# Altium footprint library TDK_B3202.PcbLib: 1 footprints
Each footprint in its own frame and in the unit in brackets; x right, y up, seen from the top. Pads: shape width x height; smd on the part's side, far side on the other; paste and mask are expansions set on the pad; w line width, h text height; cw(c..) or ccw(c..) is an arc to the next point about the centre after c.
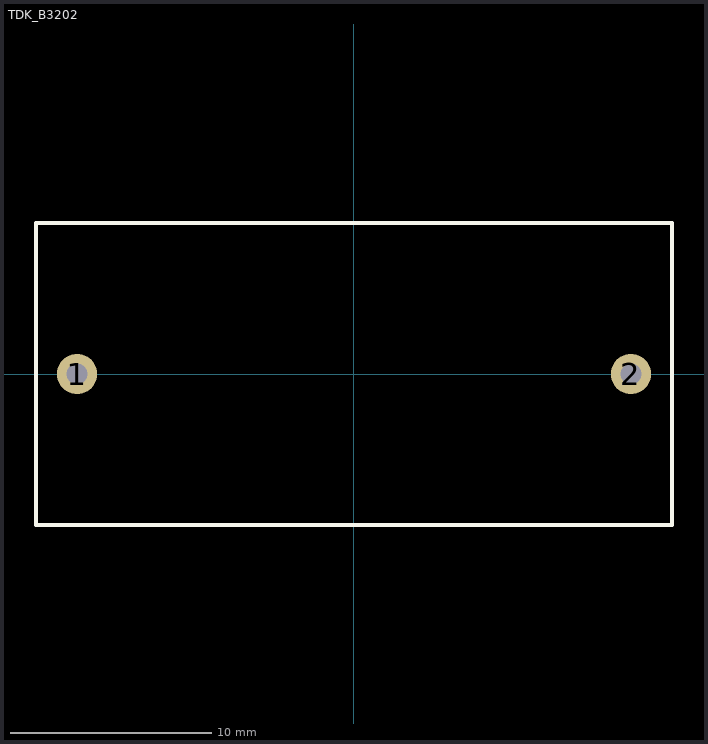
[diagram p0: the footprint, top view; thin cyan lines are the x and y axes]

## TDK_B3202 [mm] "TDK B3202 series class Y2 filter caps"
pads (2):
  round 2 hole 1.05: 1(-13.75,0) 2(13.75,0)
Top Overlay:
  lines w0.2: -15.8,-7.5 15.8,-7.5 15.8,7.5 -15.8,7.5 -15.8,-7.5
3D body: height 24.5, standoff 0, extent -15.75,-7.5 15.8,7.5